# EAGLE library part 2X6 (library pimoroni-headers)
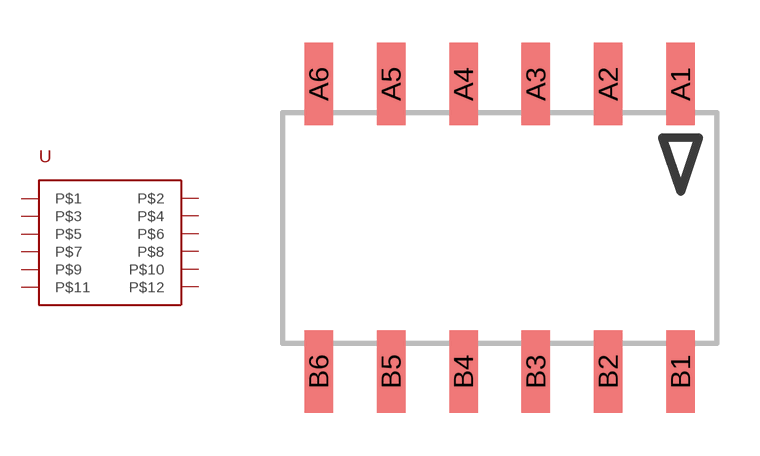
[diagram p14: symbol with the pads of 2X6_FEMALE_SMT_RIGHT_ANGLE; footprint 2X6_FEMALE_SMT_RIGHT_ANGLE]

Designator prefix -

## 2X6  [2X6_FEMALE_SMT_RIGHT_ANGLE]
A1  P$11
A2  P$9
A3  P$7
A4  P$5
A5  P$3
A6  P$1
B1  P$12
B2  P$10
B3  P$8
B4  P$6
B5  P$4
B6  P$2

## Footprint 2X6_FEMALE_SMT_RIGHT_ANGLE (pad centres in mm)
smd 1 x 2.9: A1 6.35,5.05; A2 3.81,5.05; A3 1.27,5.05; A4 -1.27,5.05; A5 -3.81,5.05; A6 -6.35,5.05; B1 6.35,-5.05; B2 3.81,-5.05; B3 1.27,-5.05; B4 -1.27,-5.05; B5 -3.81,-5.05; B6 -6.35,-5.05